# Altium integrated library Bluepill.IntLib: 1 symbol
Pins are listed as number, name and electrical type; pins without a type are passive.

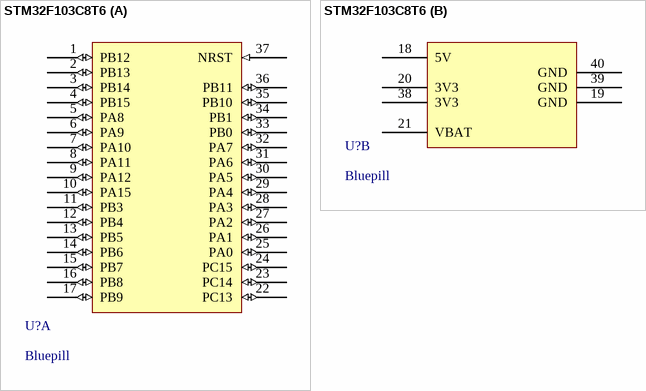
[diagram p0: symbol STM32F103C8T6]

## STM32F103C8T6
designator U?, comment Bluepill
STM32F103C8T6
footprint Blue Pill
part A pins: 1 PB12 (io), 2 PB13 (io), 3 PB14 (io), 4 PB15 (io), 5 PA8 (io), 6 PA9 (io), 7 PA10 (io), 8 PA11 (io), 9 PA12 (io), 10 PA15 (io), 11 PB3 (io), 12 PB4 (io), 13 PB5 (io), 14 PB6 (io), 15 PB7 (io), 16 PB8 (io), 17 PB9 (io), 22 PC13 (io), 23 PC14 (io), 24 PC15 (io), 25 PA0 (io), 26 PA1 (io), 27 PA2 (io), 28 PA3 (io), 29 PA4 (io), 30 PA5 (io), 31 PA6 (io), 32 PA7 (io), 33 PB0 (io), 34 PB1 (io), 35 PB10 (io), 36 PB11 (io), 37 NRST (in)
part B pins: 18 5V (power), 19 GND (power), 20 3V3 (power), 21 VBAT (power), 38 3V3 (power), 39 GND (power), 40 GND (power)